# EAGLE library part MAX16150AUT+T (library 000_ICS_2021)
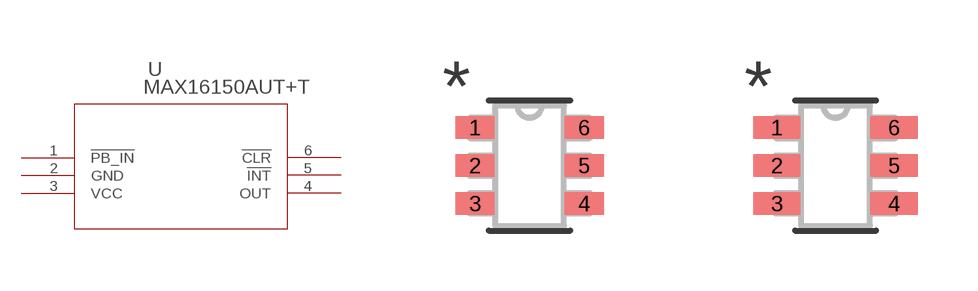
[diagram p19: symbol with the pads of 21-0058I_MXM; footprints 21-0058I_MXM, 21-0058I_MXM-M]

Designator prefix U

## MAX16150AUT+T (COPYRIGHT: Copyright (C) 2025 Ultra Librarian. All rights reserved.; MANUFACTURER_PART_NUMBER: MAX16150AUT+T; MFR_NAME: Analog Devices / Maxim Integrated)  [21-0058I_MXM]
1  !PB_IN  in
2  GND  pwr
3  VCC  pwr
4  OUT  out
5  !INT  out
6  !CLR  in

## MAX16150AUT+T21-0058I_MXM-M (COPYRIGHT: Copyright (C) 2025 Ultra Librarian. All rights reserved.; MANUFACTURER_PART_NUMBER: MAX16150AUT+T; MFR_NAME: Analog Devices / Maxim Integrated)  [21-0058I_MXM-M]
Pads as for 21-0058I_MXM

## MAX16150AUT+T21-0058I_MXM-L (COPYRIGHT: Copyright (C) 2025 Ultra Librarian. All rights reserved.; MANUFACTURER_PART_NUMBER: MAX16150AUT+T; MFR_NAME: Analog Devices / Maxim Integrated)  [21-0058I_MXM-L]
Pads as for 21-0058I_MXM

## Footprint 21-0058I_MXM (pad centres in mm)
smd 0.978 x 0.559: 1 -1.365,0.95; 2 -1.365,0; 3 -1.365,-0.95; 4 1.365,-0.95; 5 1.365,0; 6 1.365,0.95

## Footprint 21-0058I_MXM-M (pad centres in mm)
smd 1.181 x 0.559: 1 -1.467,0.95; 2 -1.467,0; 3 -1.467,-0.95; 4 1.467,-0.95; 5 1.467,0; 6 1.467,0.95

## Footprint 21-0058I_MXM-L (pad centres in mm)
smd 0.775 x 0.508: 1 -1.264,0.95; 2 -1.264,0; 3 -1.264,-0.95; 4 1.264,-0.95; 5 1.264,0; 6 1.264,0.95